# EAGLE library part ATMEGA168 (library dan-atmel)
ATMEGAx8 ATmega48 ATmega88 ATmega168 ATmega328
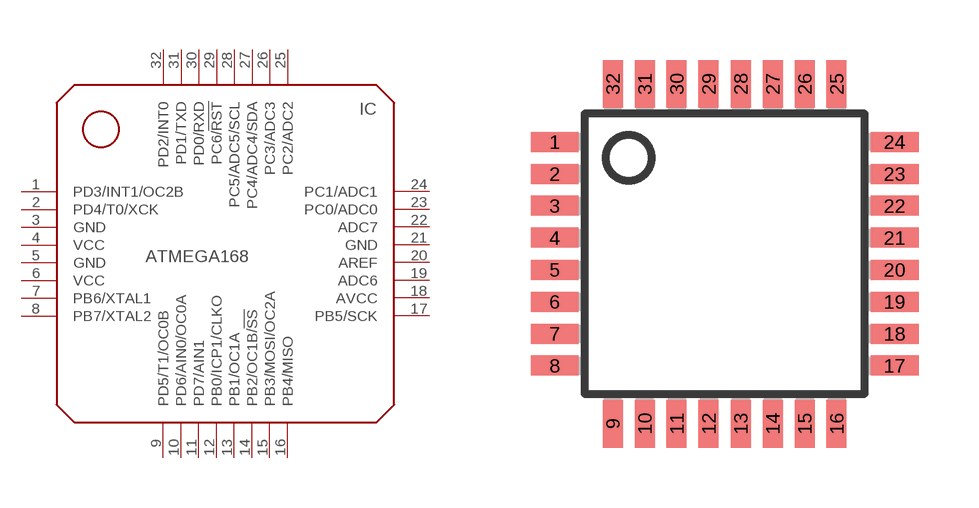
[diagram p0: symbol with the pads of TQFP32; footprint TQFP32]

Designator prefix IC

## ATMEGA168-TQFP32  [TQFP32]
1  PD3/INT1/OC2B
2  PD4/T0/XCK
3  GND  pas
4  VCC  pas
5  GND  pas
6  VCC  pas
7  PB6/XTAL1
8  PB7/XTAL2
9  PD5/T1/OC0B
10  PD6/AIN0/OC0A
11  PD7/AIN1
12  PB0/ICP1/CLKO
13  PB1/OC1A
14  PB2/OC1B/!SS
15  PB3/MOSI/OC2A
16  PB4/MISO
17  PB5/SCK
18  AVCC  pas
19  ADC6  in
20  AREF  pas
21  GND  pas
22  ADC7  in
23  PC0/ADC0
24  PC1/ADC1
25  PC2/ADC2
26  PC3/ADC3
27  PC4/ADC4/SDA
28  PC5/ADC5/SCL
29  PC6/!RST
30  PD0/RXD
31  PD1/TXD
32  PD2/INT0

## Footprint TQFP32 (pad centres in mm)
TQFP32 0.8mm pitch; from ATMEGA168 datasheet: http://www.atmel.com/dyn/resources/prod_documents/8271S.pdf
smd 1.2 x 0.5: 1 -4.25,2.8; 2 -4.25,2; 3 -4.25,1.2; 4 -4.25,0.4; 5 -4.25,-0.4; 6 -4.25,-1.2; 7 -4.25,-2; 8 -4.25,-2.8; 17 4.25,-2.8; 18 4.25,-2; 19 4.25,-1.2; 20 4.25,-0.4; 21 4.25,0.4; 22 4.25,1.2; 23 4.25,2; 24 4.25,2.8
smd 0.5 x 1.2: 9 -2.8,-4.25; 10 -2,-4.25; 11 -1.2,-4.25; 12 -0.4,-4.25; 13 0.4,-4.25; 14 1.2,-4.25; 15 2,-4.25; 16 2.8,-4.25; 25 2.8,4.25; 26 2,4.25; 27 1.2,4.25; 28 0.4,4.25; 29 -0.4,4.25; 30 -1.2,4.25; 31 -2,4.25; 32 -2.8,4.25